# Altium schematic symbol library THS4508RGTT.SchLib: 1 symbol
Pins are listed as number, name and electrical type; pins without a type are passive.

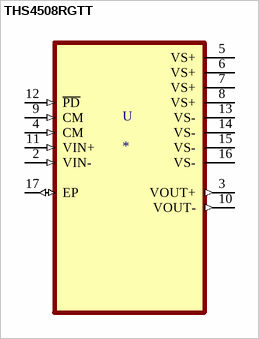
[diagram p0: symbol THS4508RGTT]

## THS4508RGTT
designator U
å®½å¸¦å…¨å·®åˆ†æ”¾å¤§å™¨16-VQFN -40è‡³85; MP: THS4508RGTT; MF: Texas Instruments; Texas_Instruments-Purchase-URL: https://snapeda.com/shop?store=Texas+Instruments&id=579755; Value: *; Availability: Warning; Price: None; Package: VQFN-16 Texas Instruments; SnapEDA_Link: https://www.snapeda.com/parts/THS4508RGTT/Texas%20Instruments/view-part/579755/?ref=snap; Mouser-Purchase-URL: https://snapeda.com/shop?store=Mouser&id=579755
footprint QFN50P300X300X100-17N
pins: 2 VIN- (in), 3 VOUT+ (out), 4 CM (in), 5 VS+ (power), 6 VS+ (power), 7 VS+ (power), 8 VS+ (power), 9 CM (in), 10 VOUT- (out), 11 VIN+ (in), 12 ~{PD} (in), 13 VS- (power), 14 VS- (power), 15 VS- (power), 16 VS- (power), 17 EP (io)